# Altium footprint library DIP-T  0607.PCBlib: 108 footprints (part 2 of 7)
Each footprint in its own frame and in the unit in brackets; x right, y up, seen from the top. Pads: shape width x height; smd on the part's side, far side on the other; paste and mask are expansions set on the pad; w line width, h text height; cw(c..) or ccw(c..) is an arc to the next point about the centre after c.
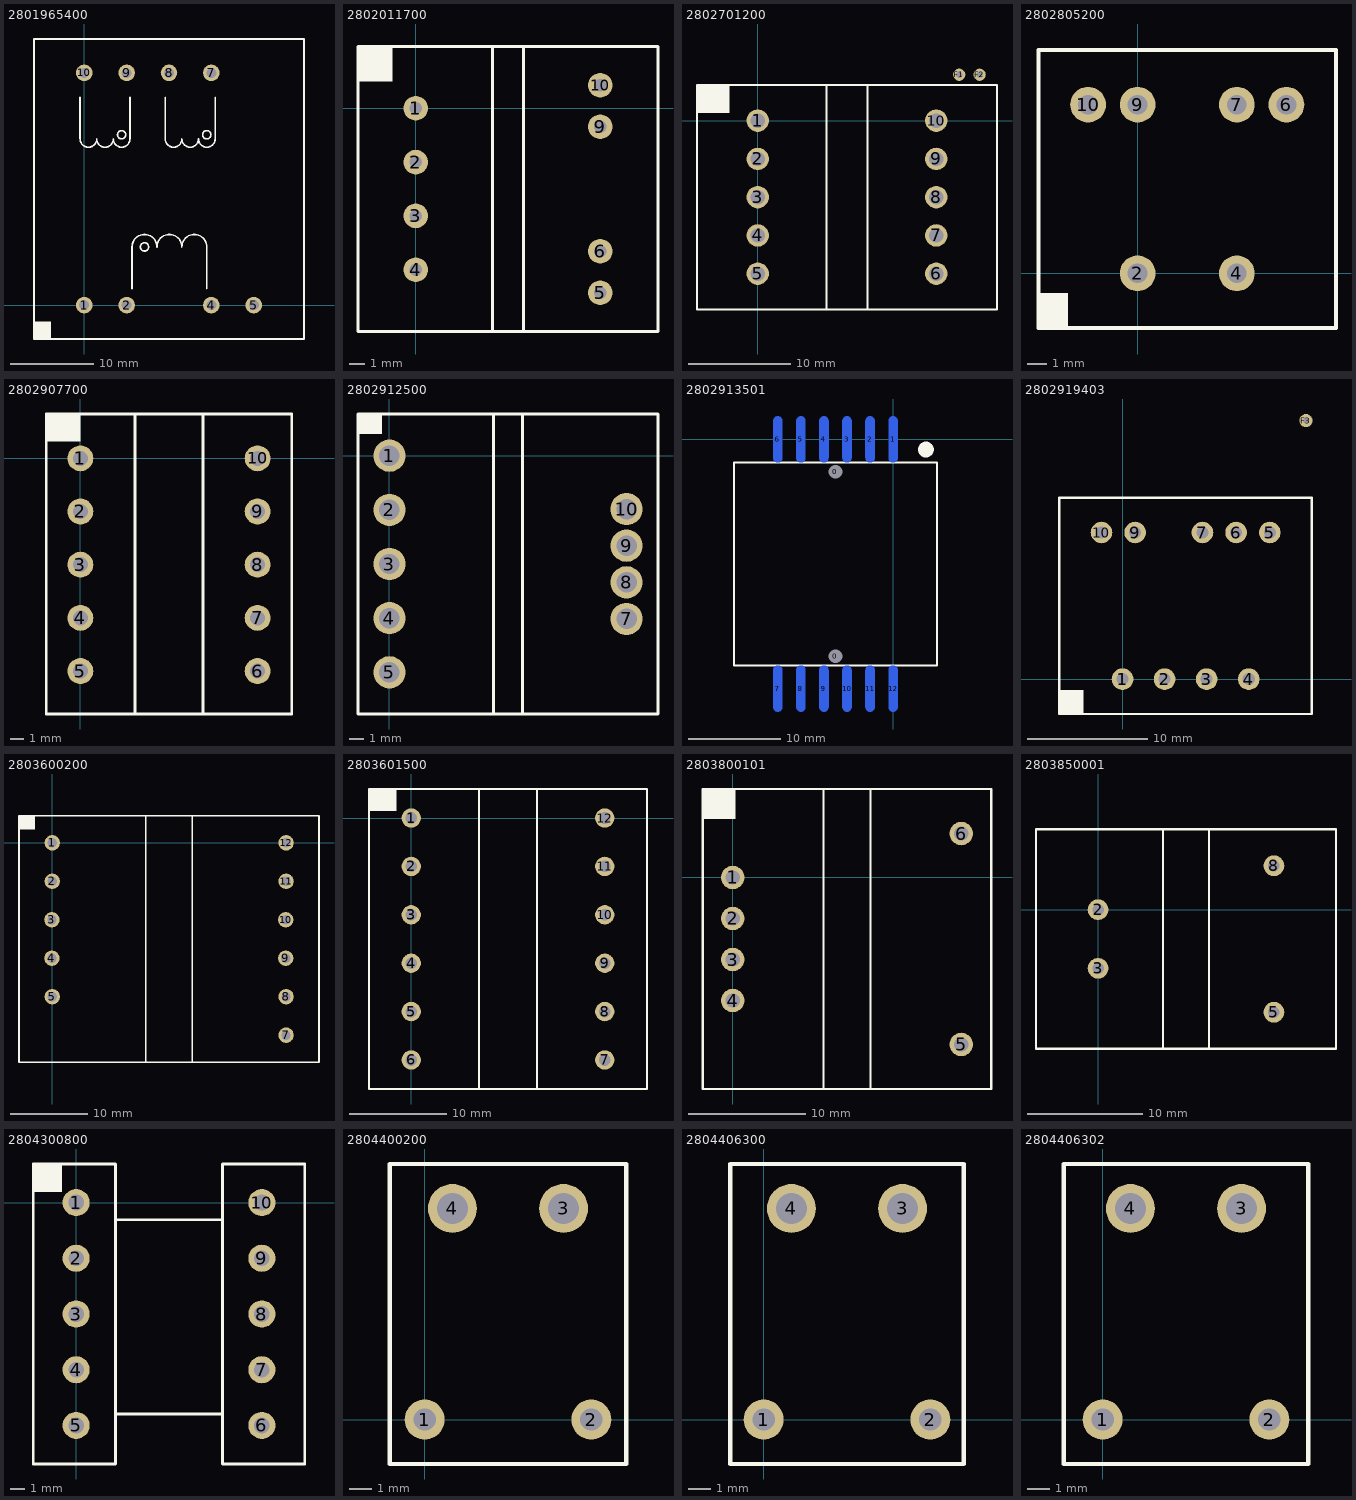
[diagram p1: the footprints below, top view; thin cyan lines are the x and y axes]

## 2801965400 [mm]
height 19.2
pads (8):
  round 2 hole 1.2: 1(0,0) 2(5.1,0) 4(15.3,0) 5(20.4,0) 7(15.3,27.94) 8(10.2,27.94) 9(5.1,27.94) 10(0,27.94)
Top Overlay:
  circle w0.2: c4.5,20.5 r0.5
  circle w0.2: c14.75,20.5 r0.5
  circle w0.2: c7.25,7 r0.5
  rectangle: -6.05,-4.08 -4,-2
  lines w0.2: -0.5,25 -0.5,20 ccw(c0.5,20) 1.5,20 ccw(c2.5,20) 3.5,20 ccw(c4.5,20) 5.5,20 5.5,25 ; 5.75,2 5.75,7 cw(c7.25,7) 8.75,7 cw(c10.25,7) 11.75,7 cw(c13.25,7) 14.75,7 14.75,2 ; 9.75,25 9.75,20 ccw(c10.75,20) 11.75,20 ccw(c12.75,20) 13.75,20 ccw(c14.75,20) 15.75,20 15.75,25 ; -6.05,-4.08 26.45,-4.08 26.45,32.02 -6.05,32.02 -6.05,-4.08

## 2802011700 [mm] "DT-E16-131A"
height 33
pads (8):
  round 1.6 hole 0.8: 1(0,0) 2(0,-3.5) 3(0,-7) 4(0,-10.5) 5(12,-12) 6(12,-9.3) 9(12,-1.2) 10(12,1.5)
Top Overlay:
  rectangle: -3.75,1.75 -1.5,4
  lines w0.2: 5,-14.5 5,4 ; 7,-14.5 7,4 ; -3.75,-14.5 15.75,-14.5 15.75,4 -3.75,4 -3.75,-14.5

## 2802701200 [mm] "DT-E20-UT4001"
height 12.7
pads (12):
  round 2.2 hole 1.4: 1(0,0) 2(0,-3.75) 3(0,-7.5) 4(0,-11.25) 5(0,-15) 6(17.5,-15) 7(17.5,-11.25) 8(17.5,-7.5) 9(17.5,-3.75) 10(17.5,0)
  round 1.2 hole 0.6: F1(19.75,4.5) F2(21.75,4.5)
Top Overlay:
  rectangle: -5.95,0.75 -2.75,3.5
  lines w0.2: 6.75,-18.5 6.75,3.5 ; 10.75,3.5 10.763,-18.5 ; -5.95,-18.5 23.45,-18.5 23.45,3.5 -5.95,3.5 -5.95,-18.5

## 2802805200 [mm] "DV-TP5064"
height 18
pads (6):
  round 1.8 hole 1: 2(0,0) 4(5,0) 6(7.5,8.5) 7(5,8.5) 9(0,8.5) 10(-2.5,8.5)
Top Overlay:
  region: -5,-1 -5,-2.75 -3.5,-2.75 -3.5,-1
  lines w0.2: -5,-2.75 -5,11.25 10,11.25 10,-2.75 -5,-2.75

## 2802907700 [mm]
pads (10):
  round 1.9 hole 1.1: 1(0,0) 2(0,-3.9) 3(0,-7.8) 4(0,-11.7) 5(0,-15.6) 6(13,-15.6) 7(13,-11.7) 8(13,-7.8) 9(13,-3.9) 10(13,0)
Top Overlay:
  rectangle: -2.45,1.25 0,3.25
  lines w0.2: -2.5,-18.75 -2.5,3.25 15.5,3.25 15.5,-18.75 -2.5,-18.75 ; 4,-18.75 4,3.25 ; 9,-18.75 9,3.25

## 2802912500 [mm] "DT-E19-UT2018"
height 13
pads (9):
  round 2.2 hole 1.4: 1(0,0) 2(0,-3.7) 3(0,-7.4) 4(0,-11.1) 5(0,-14.8) 7(16.2,-11.15) 8(16.2,-8.65) 9(16.2,-6.15) 10(16.2,-3.65)
Top Overlay:
  rectangle: -2.15,1.5 -0.5,2.85
  lines w0.2: 7.1,-17.65 7.1,2.85 ; 9.1,-17.65 9.1,2.85 ; -2.15,-17.65 18.35,-17.65 18.35,2.85 -2.15,2.85 -2.15,-17.65

## 2802913501 [mm] "DT-19H-UT3002"
height 11
pads (14):
  round 1 hole 1.5 unplated: 0(-6.25,-23.5) 0(-6.25,-3.5)
  oval 1x5 smd far side: 1(0,0) 2(-2.5,0) 3(-5,0) 4(-7.5,0) 5(-10,0) 6(-12.5,0) 7(-12.5,-27) 8(-10,-27) 9(-7.5,-27) 10(-5,-27) 11(-2.5,-27) 12(0,-27)
Top Overlay:
  circle w1: c3.546,-1.1 r0.354
  lines w0.2: -17.25,-24.5 -17.25,-2.5 4.75,-2.5 4.75,-24.5 -17.25,-24.5
Bottom Overlay:
  rectangle: 2,0.5 4,2.75
  lines w0.2: -16.5,-29.75 -16.5,2.75 4,2.75 4,-29.75 -16.5,-29.75
  text "1" at 0.25,3.25 h1.1
  text "2" at -2,3.25 h1.1
  text "3" at -4.5,3.25 h1.1
  text "4" at -7,3.25 h1.1
  text "5" at -9.5,3.25 h1.1
  text "6" at -12.25,3.25 h1.1
  text "12" at 0.75,-31.25 h1.1
  text "11" at -1.75,-31.25 h1.1
  text "10" at -4,-31.25 h1.1
  text "9" at -7.25,-31.25 h1.1
  text "8" at -9.5,-31.25 h1.1
  text "7" at -12,-31.25 h1.1
Drill Drawing:
  lines w0.2: -15.5,-20.75 -15.5,-18.75 ; -14,-20.25 -15.5,-19.75 ; -14,-19.25 -15.5,-19.75 ; -8.657,-19.75 -15.5,-19.75 ; -3.843,-19.75 3,-19.75 ; 1.5,-20.25 3,-19.75 ; 1.5,-19.25 3,-19.75 ; 3,-20.75 3,-18.75 ; 5.25,-24.25 7.25,-24.25 ; 5.25,-2.75 7.25,-2.75 ; 5.75,-22.75 6.25,-24.25 ; 5.75,-4.25 6.25,-2.75 ; 6.25,-22.2 6.25,-24.25 ; 6.25,-16.54 6.25,-14 ; 6.25,-16.05 6.25,-14 ; 6.25,-10.95 6.25,-13 ; 6.25,-10.46 6.25,-13 ; 6.25,-4.8 6.25,-2.75 ; 6.75,-22.75 6.25,-24.25 ; 6.75,-4.25 6.25,-2.75 ; 6.25,-14 6.75,-15.5 6.25,-14 ; 6.25,-14 5.75,-15.5 6.25,-14 ; 6.25,-13 6.75,-11.5 6.25,-13 ; 6.25,-13 5.75,-11.5 6.25,-13 ; -17,-23.75 ccw(c-16.5,-23.75) -16.5,-24.25 4,-24.25 ccw(c4,-23.75) 4.5,-23.75 4.5,-14.75 ccw(c3.75,-14.75) 3,-14.75 3,-22.25 cw(c2.5,-22.25) 2.5,-22.75 -15,-22.75 cw(c-15,-22.25) -15.5,-22.25 -15.5,-14.75 ccw(c-16.25,-14.75) -17,-14.75 -17,-23.75 ; -17,-12.25 ccw(c-16.25,-12.25) -15.5,-12.25 -15.5,-4.75 cw(c-15,-4.75) -15,-4.25 2.25,-4.25 cw(c2.25,-5) 3,-5 3,-12.25 ccw(c3.75,-12.25) 4.5,-12.25 4.5,-3.25 ccw(c4,-3.25) 4,-2.75 -16.5,-2.75 ccw(c-16.5,-3.25) -17,-3.25 -17,-12.25 ; 5.25,-14 7.25,-14 5.25,-14 ; 5.25,-13 7.25,-13 5.25,-13
  text "10.25" at 7.2,-21.946 h1.5
  text "1" at 10.049,-13.879 h1.5
  text "10.25" at 7.2,-10.696 h1.5
  text "18.5" at -8.403,-20.7 h1.5
  text "(ROUT=1.5 NPTH)*2" at -14.25,-14.75 h1.2

## 2802919403 [mm]
height 32
pads (10):
  round 1.8 hole 1: 1(0,0) 2(3.5,0) 3(7,0) 4(10.5,0) 5(12.25,12.2) 6(9.45,12.2) 7(6.65,12.2) 9(1.05,12.2) 10(-1.75,12.2)
  round 1.1 hole 0.5: F3(15.26,21.509)
Top Overlay:
  rectangle: -5.25,-2.899 -3.25,-0.899
  lines w0.2: -5.25,-2.9 15.75,-2.9 15.75,15.1 -5.25,15.1 -5.25,-2.9

## 2803600200 [mm] "DT-28RH-UT2012"
height 27.5
pads (11):
  round 2 hole 1.2: 1(0,0) 2(0,-5) 3(-0.05,-10) 4(-0.05,-15) 5(0,-20) 7(30.4,-25) 8(30.4,-20) 9(30.35,-15) 10(30.35,-10) 11(30.4,-5) 12(30.4,0)
Top Overlay:
  rectangle: -4.325,1.75 -2.25,3.5
  lines w0.2: 12.175,-28.5 12.175,3.5 ; 18.175,-28.5 18.175,3.5 ; -4.325,-28.5 34.675,-28.5 34.675,3.5 -4.325,3.5 -4.325,-28.5

## 2803601500 [mm]
height 39
pads (12):
  round 2 hole 1.2: 1(0,0) 2(0,-5) 3(0,-10) 4(0,-15) 5(0,-20) 6(0,-25) 7(20,-25) 8(20,-20) 9(20,-15) 10(20,-10) 11(20,-5) 12(20,0)
Top Overlay:
  rectangle: -4.35,0.75 -1.5,3
  lines w0.2: 7,-28 7,3 ; 13,-28 13,3 ; -4.35,-28 24.35,-28 24.35,3 -4.35,3 -4.35,-28

## 2803800101 [mm]
height 18.5
pads (6):
  round 2 hole 1.2: 1(0,0) 2(0,-3.5) 3(0,-7) 4(0,-10.5) 5(19.5,-14.25) 6(19.5,3.75)
Top Overlay:
  rectangle: -2.55,5 0.25,7.55
  lines w0.2: 7.75,-18.05 7.75,7.55 ; 11.75,-18.05 11.75,7.55 ; -2.55,-18.05 22.05,-18.05 22.05,7.55 -2.55,7.55 -2.55,-18.05

## 2803850001 [mm] "DT-RM6-01"
height 14.5
pads (4):
  round 1.8 hole 1: 2(0,0) 3(0,-5.08) 5(15.24,-8.89) 8(15.24,3.81)
Top Overlay:
  lines w0.2: 5.62,-12.04 5.62,6.96 ; 9.62,-12.04 9.62,6.96 ; -5.38,-12.04 20.62,-12.04 20.62,6.96 -5.38,6.96 -5.38,-12.04

## 2804300800 [mm]
pads (10):
  round 1.9 hole 1.1: 1(0,0) 2(0,-3.9) 3(0,-7.8) 4(0,-11.7) 5(0,-15.6) 6(13,-15.6) 7(13,-11.7) 8(13,-7.8) 9(13,-3.9) 10(13,0)
Top Overlay:
  rectangle: -3,0.75 -1,2.7
  lines w0.2: 2.75,-14.8 10.25,-14.8 ; 2.75,-1.2 10.25,-1.2 ; -3,-18.3 2.75,-18.3 2.75,2.7 -3,2.7 -3,-18.3 ; 10.25,-18.3 16,-18.3 16,2.7 10.25,2.7 10.25,-18.3

## 2804400200 [mm] "ST-E10-02"
height 22
pads (4):
  round 1.8 hole 1: 1(0,0) 2(7.5,0)
  round 2.2 hole 1.4: 3(6.25,9.5) 4(1.25,9.5)
Top Overlay:
  lines w0.2: -1.575,-2 -1.575,11.5 9.075,11.5 9.075,-2 -1.575,-2

## 2804406300 [mm]
height 22
pads (4):
  round 1.8 hole 1: 1(0,0) 2(7.5,0)
  round 2.2 hole 1.4: 3(6.25,9.5) 4(1.25,9.5)
Top Overlay:
  lines w0.2: -1.5,-2 9,-2 9,11.5 -1.5,11.5 -1.5,-2

## 2804406302 [mm]
height 22
pads (4):
  round 1.8 hole 1: 1(0,0) 2(7.5,0)
  round 2.2 hole 1.4: 3(6.25,9.5) 4(1.25,9.5)
Top Overlay:
  lines w0.2: -1.75,-2 -1.75,11.5 9.25,11.5 9.25,-2 -1.75,-2